# Altium footprint library SO8.PcbLib: 2 footprints
Each footprint in its own frame and in the unit in brackets; x right, y up, seen from the top. Pads: shape width x height; smd on the part's side, far side on the other; paste and mask are expansions set on the pad; w line width, h text height; cw(c..) or ccw(c..) is an arc to the next point about the centre after c.
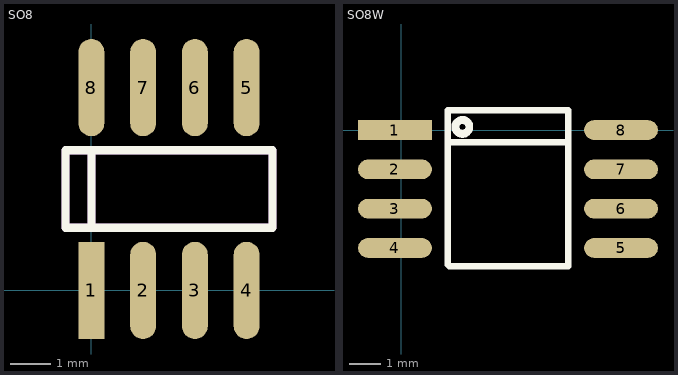
[diagram p0: the footprints below, top view; thin cyan lines are the x and y axes]

## SO8 [mil]
height 3
pads (8):
  rect 25x94 smd: 1(0,0)
  oval 25x94 smd: 2(50,0) 3(100,0) 4(150,0) 5(150,196) 6(100,196) 7(50,196) 8(0,196)
Top Overlay:
  lines w8: 0,60.5 0,135.5 ; -25,60.5 175,60.5 175,135.5 -25,135.5 -25,60.5
Mechanical 1:
  lines w8: 0,60.5 0,135.5 ; -25,60.5 175,60.5 175,135.5 -25,135.5 -25,60.5
3D body: height 68.9, standoff 0.01, extent -23.62,-23.85 173.23,212.82

## SO8W [mil]
height 78.74
pads (8):
  rect 94x25 smd: 1(-7.87,0)
  oval 94x25 smd: 2(-7.87,-50) 3(-7.87,-100) 4(-7.87,-150) 5(279.53,-150) 6(279.53,-100) 7(279.53,-50) 8(279.53,0)
Top Overlay:
  circle w10: c77.81,3.94 r8.8
  lines w8: 59.06,-15.75 212.6,-15.75 ; 212.6,23.62 212.6,-173.23 61.02,-173.23 59.06,-171.26 59.06,25 212.6,25
3D body: height 67, standoff 0, extent -75.64,-173.23 343.36,16.77